# EAGLE library part WF-8 (library gost_con_wf)
Разъем WF шаг 2.54mm
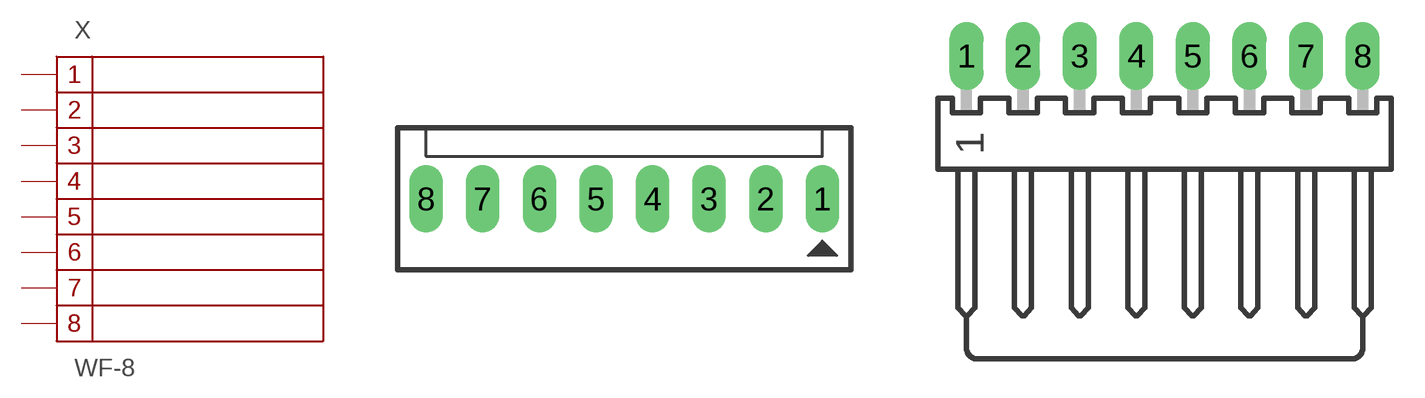
[diagram p7: symbol with the pads of WF-8; footprints WF-8, WF-8R]

Designator prefix X

## WF-8  [WF-8]
1  1
2  2
3  3
4  4
5  5
6  6
7  7
8  8

## WF-8R  [WF-8R]
Pads as for WF-8

## Footprint WF-8 (pad centres in mm)
Разъем WF-8 2.54mm
drill 1 pad 1.5 long: 1 8.89,0; 2 6.35,0; 3 3.81,0; 4 1.27,0; 5 -1.27,0; 6 -3.81,0; 7 -6.35,0; 8 -8.89,0

## Footprint WF-8R (pad centres in mm)
Разъем WF-8R 2.54mm
drill 1.016 pad 1.5 long: 1 -8.89,0; 2 -6.35,0; 3 -3.81,0; 4 -1.27,0; 5 1.27,0; 6 3.81,0; 7 6.35,0; 8 8.89,0